# Altium schematic symbol library Schlib1.SchLib: 20 symbols
Pins are listed as number, name and electrical type; pins without a type are passive.

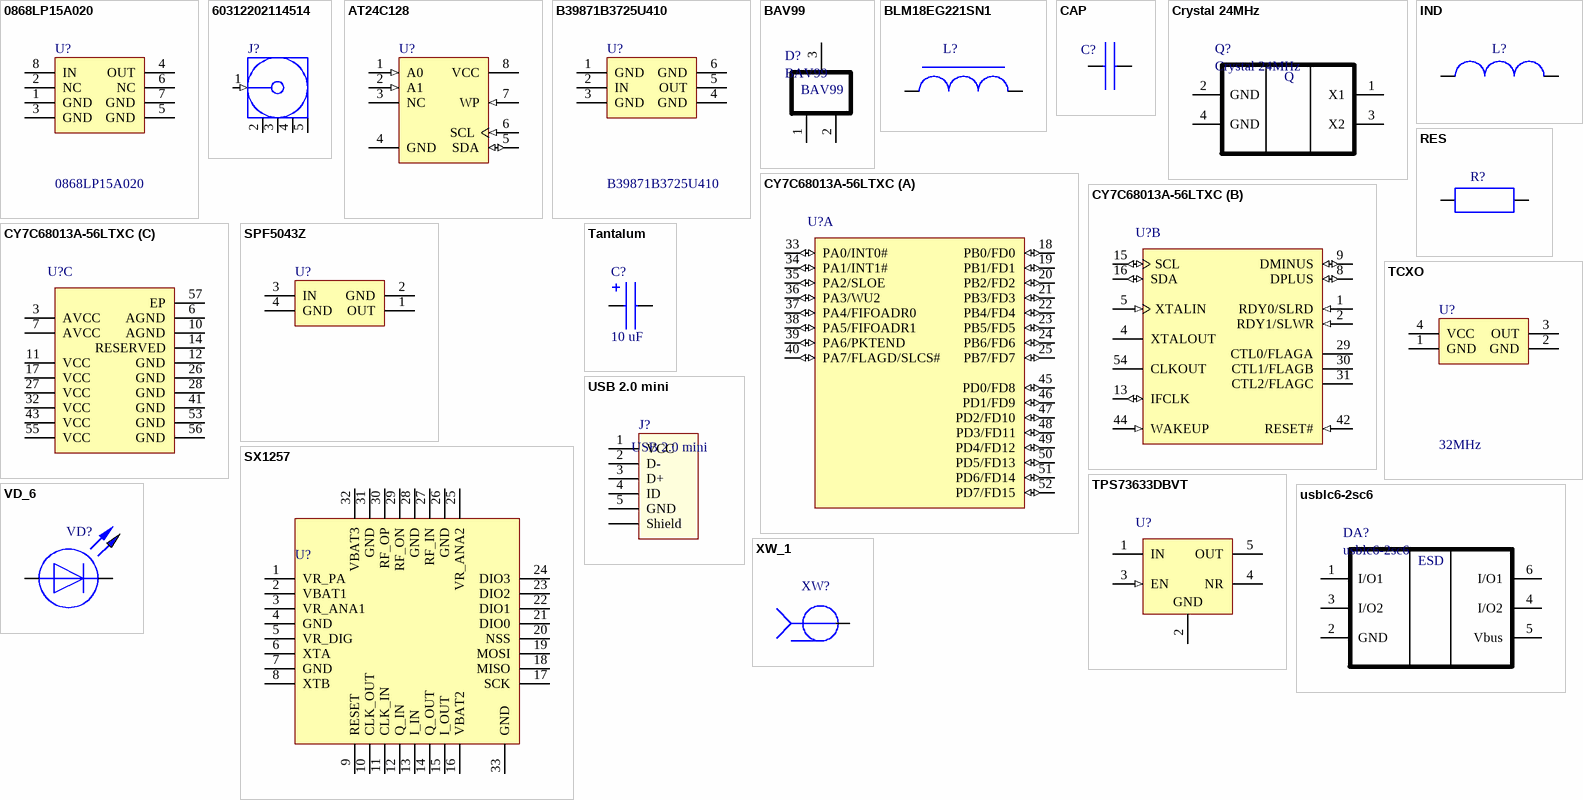
[diagram p0: symbols 0868LP15A020 to XW_1]

## 0868LP15A020
designator U?
footprint LPF868
pins: 1 GND, 2 NC, 3 GND, 4 OUT (power), 5 GND, 6 NC, 7 GND, 8 IN

## 60312202114514
designator J?
WR-SMA SMA PCB End Launch Jack Flat Tab for 1.6 mm PCB; Part Number: 60312202114514; Impedance: 50 Ohm; Frequency Range: DC~18 GHz; Orientation Type: Straight; ComponentLink1Description: Manufacturer; ComponentLink1URL: http://www.we-online.de; ComponentLink2Description: Datasheet; ComponentLink2URL: https://katalog.we-online.de/em/datasheet/60312202114514.pdf; Published Date: August 2018; Publisher: Wurth Elektronik; Operating Temperature: -65 to 165 degC; Gender: Jack; Packaging: Tray; Connector Type: SMA; Mounting Technology: SMT
footprint 60312202114514 (SMA PCB End Launch Jack Flat  Tab for 1.6mm PCB)
pins: 1 Signal (in) "Signal Pin", 2 GND (power), 3 GND (power), 4 GND (power), 5 GND (power)

## AT24C128
designator U?
footprint 8S1_N (SOIC, 8-Leads, Body 4.9x3.9mm, Pitch 1.27mm, IPC Medium Density)
pins: 1 A0 (in), 2 A1 (in), 3 NC, 4 GND (power), 5 SDA (io), 6 SCL (in), 7 WP (in), 8 VCC (power)

## B39871B3725U410
designator U?
SAW Filter, 869MHz Center
footprint SAW_Filter (B39871B3725U410)
pins: 1 GND, 2 IN, 3 GND, 4 GND (power), 5 OUT, 6 GND

## BAV99
designator D?
footprint SOT-23B (SOT-23; 3 Leads; Body 3.0 x 2.6 mm, inc. leads (LxW max))
pins: 1, 2, 3

## BLM18EG221SN1
designator L?  (value not drawn)
SMD Ferrite Bead 2A 220 Ohm(100MHz); Name: Чип-феррит BLM18EG221SN1; Type: Inductor; Vendor1: Murata Manufacturing, Co., Japan; Ta: -55+125; DC Resistance: 0.05 Ohm; Impedance: 220 Ohm (100MHz) / 260 Ohm (1GHz); Vendor1Name: BLM18EG221SN1; Current: 2 A
footprint BLM18EG221SN1 (Molded Inductor, 2-Leads, Body 1,60x0,80mm, IPC Medium Density)
pins: 1, 2

## CAP
designator C?
footprint CAP(0603)
pins: 1, 2

## Crystal 24MHz
designator Q?
footprint SMD3225 (DFN, 4-Leads, Body 2,50x3,20mm, Pitch 2,10mm, IPC Medium Density)
pins: 1 X1, 2 GND, 3 X2, 4 GND
text: Q

## CY7C68013A-56LTXC
designator U?
EZ-USB(R) FX2LP(TM) USB Microcontroller High-Speed USB Peripheral Controller, 16 KB, 24 I/Os, 3 to 3.6 V, 0 to 70 degC, 56-Pin QFN (LTX56), Tray
footprint CYP-LTX56-5200X4500TP_N (QFN, 56-Leads, Body 8.1x8.1mm, Pitch 0.5mm, Thermal Pad 5.2x4.5mm, IPC Medium Density)
part A pins: 18 PB0/FD0 (io), 19 PB1/FD1 (io), 20 PB2/FD2 (io), 21 PB3/FD3 (io), 22 PB4/FD4 (io), 23 PB5/FD5 (io), 24 PB6/FD6 (io), 25 PB7/FD7 (io), 33 PA0/INT0# (io), 34 PA1/INT1# (io), 35 PA2/SLOE (io), 36 PA3/WU2 (io), 37 PA4/FIFOADR0 (io), 38 PA5/FIFOADR1 (io), 39 PA6/PKTEND (io), 40 PA7/FLAGD/SLCS# (io), 45 PD0/FD8 (io), 46 PD1/FD9 (io), 47 PD2/FD10 (io), 48 PD3/FD11 (io), 49 PD4/FD12 (io), 50 PD5/FD13 (io), 51 PD6/FD14 (io), 52 PD7/FD15 (io)
part B pins: 1 RDY0/SLRD (in), 2 RDY1/SLWR (in), 4 XTALOUT "Crystal Output. Connect this signal to a 24 MHz parallel-resonant, fundamental mode crystal and load capacitor to GND.If an external clock is used to drive XTALIN, leave this pin open.", 5 XTALIN (in) "Crystal Input. Connect this signal to a 24 MHz parallel-resonant, fundamental mode crystal and load capacitor to GND. It is also correct to drive XTALIN with an external 24-MHz square wave derived from another clock source. (See Datasheet)", 8 DPLUS (io) "USB D+ Signal. Connect to the USB D+ signal", 9 DMINUS (io) "USB D- Signal. Connect to the USB D- signal.", 13 IFCLK (io) "Interface Clock, used for synchronously clocking data into or out of the slave FIFOs. IFCLK also serves as a timing reference for all slave FIFO control signals and GPIF. When internal clocking is used (IFCONFIG.7 = 1) the (See Datasheet)", 15 SCL (io) "Clock for the I2C interface. Connect to VCC with a 2.2K resistor, even if no I2C peripheral is attached.", 16 SDA (io) "Data for I2C compatible interface. Connect to VCC with a 2.2K resistor, even if no I2C compatible peripheral is attached.", 29 CTL0/FLAGA (hiz), 30 CTL1/FLAGB (hiz), 31 CTL2/FLAGC (hiz), 42 RESET# (in) "Active LOW Reset. Resets the entire chip. See section 2.9 ”Reset and Wakeup?on page 8 for more details.", 44 WAKEUP (in), 54 CLKOUT (hiz) "12-, 24- or 48 MHz clock, phase locked to the 24 MHz input clock. The 8051 defaults to 12 MHz operation. The 8051 may three-state this output by setting CPUCS.1 = 1."
part C pins: 3 AVCC (power) "Analog VCC. Connect this pin to 3.3V power source. This signal provides power to the analog section of the chip.", 6 AGND (power) "Analog Ground. Connect to ground with as short a path as possible.", 7 AVCC (power) "Analog VCC. Connect this pin to 3.3V power source. This signal provides power to the analog section of the chip.", 10 AGND (power) "Analog Ground. Connect to ground with as short a path as possible.", 11 VCC (power) "VCC. Connect to 3.3 V power source.", 12 GND (power) "Ground.", 14 RESERVED (power) "Reserved. Connect to ground.", 17 VCC (power) "VCC. Connect to 3.3 V power source.", 26 GND (power) "Ground.", 27 VCC (power) "VCC. Connect to 3.3 V power source.", 28 GND (power) "Ground.", 32 VCC (power) "VCC. Connect to 3.3 V power source.", 41 GND (power) "Ground.", 43 VCC (power) "VCC. Connect to 3.3 V power source.", 53 GND (power) "Ground.", 55 VCC (power) "VCC. Connect to 3.3 V power source.", 56 GND (power) "Ground.", 57 EP

## IND
designator L?
footprint L_0603 (Chip Inductor, 2-Leads)
pins: 1, 2

## RES
designator R?
Chip Resistor
footprint RES(0603) (Res 0603)
pins: 1, 2

## SPF5043Z
designator U?
footprint SOT343-4 (SOT343, 4-Leads, Body 2,00x2,10mm, Pitch 1,30mm, IPC Medium Density)
pins: 1 OUT, 2 GND (power), 3 IN, 4 GND

## SX1257
designator U?
footprint QFN-32 (QFN, 32-Leads, Body 5,00x5,00mm, Pitch 0,50mm, Thermal Pad 3,10x3,10mm, IPC Medium Density)
pins: 1 VR_PA, 2 VBAT1, 3 VR_ANA1, 4 GND, 5 VR_DIG, 6 XTA, 7 GND, 8 XTB, 9 RESET, 10 CLK_OUT, 11 CLK_IN, 12 Q_IN, 13 I_IN, 14 Q_OUT, 15 I_OUT, 16 VBAT2, 17 SCK, 18 MISO, 19 MOSI, 20 NSS, 21 DIO0, 22 DIO1, 23 DIO2, 24 DIO3, 25 VR_ANA2, 26 GND, 27 RF_IN, 28 GND, 29 RF_ON, 30 RF_OP, 31 GND, 32 VBAT3, 33 GND

## Tantalum
designator C?, comment 10 uF
Tantalum SMD capacitor
footprint CC3216(1206)x18
pins: 1, 2

## TCXO
designator U?, comment 32MHz
footprint TCXO
pins: 1 GND, 2 GND, 3 OUT (power), 4 VCC

## TPS73633DBVT
designator U?
Single Output Low Noise LDO, 400 mA, Fixed 3.3 V Output, 1.7 to 5.5 V Input, with Reverse Current Protection, 5-pin SOT-23 (DBV), -40 to 85 degC, Green (RoHS & no Sb/Br); Manufacturer: Texas Instruments; PartNumber: TPS73633DBVT; Accuracy(%): 1; Fixed Output Options(V): 3.3; Iout(Max)(A): 0.4; Iq(Typ)(mA): 0.3; Rating: Catalog; SubFamily: Single Channel LDO; Vdo(Typ)(mV): 75; Vin(Max)(V): 5.5; Vin(Min)(V): 1.7; DatasheetVersion: SBVS038T; PackageVersion: 4073253-4/K; PackageReference: DBV5; PackageDescription: 5-Pin Plastic Small Outline, Body 1.60 Г— 2.90 mm, Pitch 0.95 mm; Eco-Plan: Green (RoHS & no Sb/Br); Vout Adj(Max)(V): 3.3; Vout Adj(Min)(V): 3.3; Mounting Technology: Surface Mount; Code_JEDEC: MO-178
footprint TI-DBV5_N (SOT23, 5-Leads, Body 2.9x1.6mm, Pitch 0.95mm, IPC Medium Density)
pins: 1 IN (power) "Input supply.", 2 GND (power) "Ground.", 3 EN (in) "Driving the enable pin (EN) high turns on the regulator .Driving this pin low puts the regulator into shutdown mode.EN can be connected to IN if not used.", 4 NR "Fixed voltage versions only; connecting an external capacitor to this pin bypasses noise generated by the internal bandgap. This capacitor allows output noise to be reduced to very low levels.", 5 OUT (power) "Output for the regulator. A small capacitor (total typical capacitance >= 2.0uF ceramic) is needed from this pin to ground to assure stability."

## USB 2.0 mini
designator J?
Mini USB 2.0 Type B SMT Horizontal 5 Contacts WR-COM
footprint 65100516121 (Mini USB 2.0 Type B SMT Horizontal 5 Contacts)
pins: 1 VCC, 2 D-, 3 D+, 4 ID, 5 GND, Shell Shield

## usblc6-2sc6
designator DA?
footprint SOT23-6L
pins: 1 I/O1, 2 GND, 3 I/O2, 4 I/O2, 5 Vbus, 6 I/O1
text: ESD

## VD_6
designator VD?  (value not drawn)
footprint LED_0603 (Molded Diode, 2-Leads, Body 1,60x0,80mm, IPC Medium Density)
pins: A, K

## XW_1
designator XW?  (value not drawn)
footprint SMA-SV
pins: 1, 2 hidden to GND